# EAGLE library part MCP3208 (library microchip-extra)
2.7V Dual Channel 12-Bit A/D Converter with SPI Serial Interface Source: http://ww1.microchip.com/downloads/en/DeviceDoc/21034D.pdf
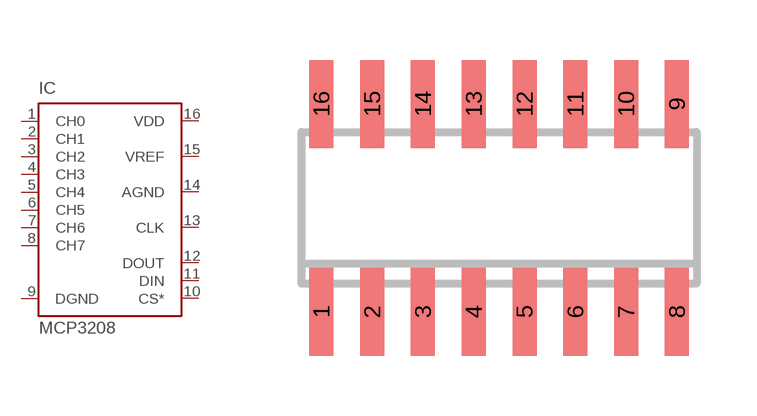
[diagram p0: symbol with the pads of SO-16; footprint SO-16]

Designator prefix IC

## MCP3208SN (MF: MICROCHIP; MPN: MCP3202-CI/SN; OC_FARNELL: 1196803; OC_NEWARK: 19C7207)  [SO-16]
1  CH0
2  CH1
3  CH2
4  CH3
5  CH4
6  CH5
7  CH6
8  CH7
9  DGND
10  CS*
11  DIN
12  DOUT
13  CLK
14  AGND
15  VREF
16  VDD

## Footprint SO-16 (pad centres in mm)
Small Outline Narrow Plastic Gull Wing 150-mil body, package type SN
smd 0.6 x 2.2: 1 -4.445,-2.6; 2 -3.175,-2.6; 3 -1.905,-2.6; 4 -0.635,-2.6; 5 0.635,-2.6; 6 1.905,-2.6; 7 3.175,-2.6; 8 4.445,-2.6; 9 4.445,2.6; 10 3.175,2.6; 11 1.905,2.6; 12 0.635,2.6; 13 -0.635,2.6; 14 -1.905,2.6; 15 -3.175,2.6; 16 -4.445,2.6